# EAGLE library part ESPARDINO_XP_SINGLEPART (library espardino_xpress)
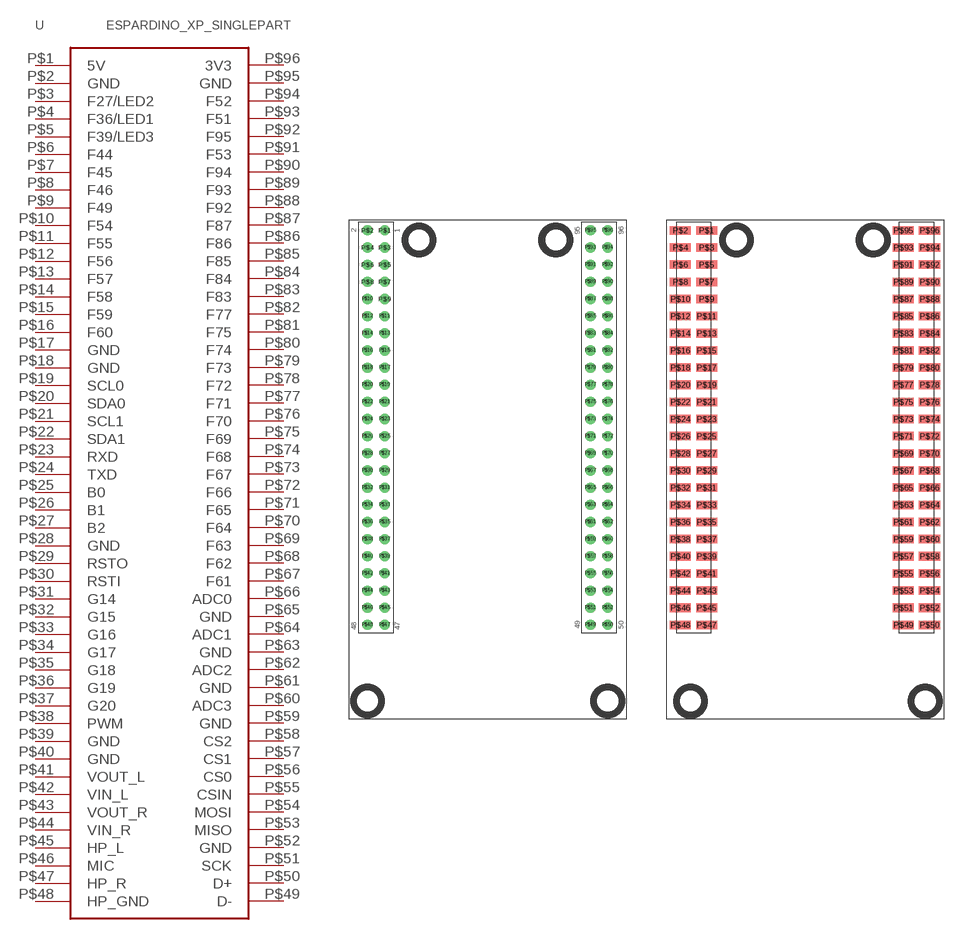
[diagram p0: symbol with the pads of ESPARDINO_XP_HOLES; footprints ESPARDINO_XP_HOLES, ESPARDINO_XP_SMD]

Designator prefix -

## ESPARDINO_XP_SINGLEPART_HOLES  [ESPARDINO_XP_HOLES]
P$1  5V  pwr
P$2  GND  pwr
P$3  F27/LED2
P$4  F36/LED1
P$5  F39/LED3
P$6  F44
P$7  F45
P$8  F46
P$9  F49
P$10  F54
P$11  F55
P$12  F56
P$13  F57
P$14  F58
P$15  F59
P$16  F60
P$17  GND  pwr
P$18  GND  pwr
P$19  SCL0
P$20  SDA0
P$21  SCL1
P$22  SDA1
P$23  RXD
P$24  TXD
P$25  B0
P$26  B1
P$27  B2
P$28  GND  pwr
P$29  RSTO
P$30  RSTI
P$31  G14
P$32  G15
P$33  G16
P$34  G17
P$35  G18
P$36  G19
P$37  G20
P$38  PWM
P$39  GND  pwr
P$40  GND  pwr
P$41  VOUT_L
P$42  VIN_L
P$43  VOUT_R
P$44  VIN_R
P$45  HP_L
P$46  MIC
P$47  HP_R
P$48  HP_GND
P$49  D-
P$50  D+
P$51  SCK
P$52  GND  pwr
P$53  MISO
P$54  MOSI
P$55  CSIN
P$56  CS0
P$57  CS1
P$58  CS2
P$59  GND  pwr
P$60  ADC3
P$61  GND  pwr
P$62  ADC2
P$63  GND  pwr
P$64  ADC1
P$65  GND  pwr
P$66  ADC0
P$67  F61
P$68  F62
P$69  F63
P$70  F64
P$71  F65
P$72  F66
P$73  F67
P$74  F68
P$75  F69
P$76  F70
P$77  F71
P$78  F72
P$79  F73
P$80  F74
P$81  F75
P$82  F77
P$83  F83
P$84  F84
P$85  F85
P$86  F86
P$87  F87
P$88  F92
P$89  F93
P$90  F94
P$91  F53
P$92  F95
P$93  F51
P$94  F52
P$95  GND  pwr
P$96  3V3  pwr

## ESPARDINO_XP_SINGLEPART_SMD  [ESPARDINO_XP_SMD]
Pads as for ESPARDINO_XP_HOLES

## Footprint ESPARDINO_XP_HOLES (pad centres in mm)
drill 0.9 pad 1.5 round: P$1 0,0; P$2 -2.54,0; P$3 0,-2.54; P$4 -2.54,-2.54; P$5 0,-5.08; P$6 -2.54,-5.08; P$7 0,-7.62; P$8 -2.54,-7.62; P$9 0,-10.16; P$10 -2.54,-10.16; P$11 0,-12.7; P$12 -2.54,-12.7; P$13 0,-15.24; P$14 -2.54,-15.24; P$15 0,-17.78; P$16 -2.54,-17.78; P$17 0,-20.32; P$18 -2.54,-20.32; P$19 0,-22.86; P$20 -2.54,-22.86; P$21 0,-25.4; P$22 -2.54,-25.4; P$23 0,-27.94; P$24 -2.54,-27.94; P$25 0,-30.48; P$26 -2.54,-30.48; P$27 0,-33.02; P$28 -2.54,-33.02; P$29 0,-35.56; P$30 -2.54,-35.56; P$31 0,-38.1; P$32 -2.54,-38.1; P$33 0,-40.64; P$34 -2.54,-40.64; P$35 0,-43.18; P$36 -2.54,-43.18; P$37 0,-45.72; P$38 -2.54,-45.72; P$39 0,-48.26; P$40 -2.54,-48.26; P$41 0,-50.8; P$42 -2.54,-50.8; P$43 0,-53.34; P$44 -2.54,-53.34; P$45 0,-55.88; P$46 -2.54,-55.88; P$47 0,-58.42; P$48 -2.54,-58.42; P$49 30.48,-58.42; P$50 33.02,-58.42; P$51 30.48,-55.88; P$52 33.02,-55.88; P$53 30.48,-53.34; P$54 33.02,-53.34; P$55 30.48,-50.8; P$56 33.02,-50.8; P$57 30.48,-48.26; P$58 33.02,-48.26; P$59 30.48,-45.72; P$60 33.02,-45.72; P$61 30.48,-43.18; P$62 33.02,-43.18; P$63 30.48,-40.64; P$64 33.02,-40.64; P$65 30.48,-38.1; P$66 33.02,-38.1; P$67 30.48,-35.56; P$68 33.02,-35.56; P$69 30.48,-33.02; P$70 33.02,-33.02; P$71 30.48,-30.48; P$72 33.02,-30.48; P$73 30.48,-27.94; P$74 33.02,-27.94; P$75 30.48,-25.4; P$76 33.02,-25.4; P$77 30.48,-22.86; P$78 33.02,-22.86; P$79 30.48,-20.32; P$80 33.02,-20.32; P$81 30.48,-17.78; P$82 33.02,-17.78; P$83 30.48,-15.24; P$84 33.02,-15.24; P$85 30.48,-12.7; P$86 33.02,-12.7; P$87 30.48,-10.16; P$88 33.02,-10.16; P$89 30.48,-7.62; P$90 33.02,-7.62; P$91 30.48,-5.08; P$92 33.02,-5.08; P$93 30.48,-2.54; P$94 33.02,-2.54; P$95 30.48,0; P$96 33.02,0
hole 3.2 at 5.08,-1.42
hole 3.2 at 25.35,-1.42
hole 3.2 at -2.56,-69.71
hole 3.2 at 33.04,-69.71

## Footprint ESPARDINO_XP_SMD (pad centres in mm)
smd 3.12 x 1.27: P$1 0,0; P$2 -3.88,0; P$3 0,-2.54; P$4 -3.88,-2.54; P$5 0,-5.08; P$6 -3.88,-5.08; P$7 0,-7.62; P$8 -3.88,-7.62; P$9 0,-10.16; P$10 -3.88,-10.16; P$11 0,-12.7; P$12 -3.88,-12.7; P$13 0,-15.24; P$14 -3.88,-15.24; P$15 0,-17.78; P$16 -3.88,-17.78; P$17 0,-20.32; P$18 -3.88,-20.32; P$19 0,-22.86; P$20 -3.88,-22.86; P$21 0,-25.4; P$22 -3.88,-25.4; P$23 0,-27.94; P$24 -3.88,-27.94; P$25 0,-30.48; P$26 -3.88,-30.48; P$27 0,-33.02; P$28 -3.88,-33.02; P$29 0,-35.56; P$30 -3.88,-35.56; P$31 0,-38.1; P$32 -3.88,-38.1; P$33 0,-40.64; P$34 -3.88,-40.64; P$35 0,-43.18; P$36 -3.88,-43.18; P$37 0,-45.72; P$38 -3.88,-45.72; P$39 0,-48.26; P$40 -3.88,-48.26; P$41 0,-50.8; P$42 -3.88,-50.8; P$43 0,-53.34; P$44 -3.88,-53.34; P$45 0,-55.88; P$46 -3.88,-55.88; P$47 0,-58.42; P$48 -3.88,-58.42; P$49 29.14,-58.42; P$50 33.02,-58.42; P$51 29.14,-55.88; P$52 33.02,-55.88; P$53 29.14,-53.34; P$54 33.02,-53.34; P$55 29.14,-50.8; P$56 33.02,-50.8; P$57 29.14,-48.26; P$58 33.02,-48.26; P$59 29.14,-45.72; P$60 33.02,-45.72; P$61 29.14,-43.18; P$62 33.02,-43.18; P$63 29.14,-40.64; P$64 33.02,-40.64; P$65 29.14,-38.1; P$66 33.02,-38.1; P$67 29.14,-35.56; P$68 33.02,-35.56; P$69 29.14,-33.02; P$70 33.02,-33.02; P$71 29.14,-30.48; P$72 33.02,-30.48; P$73 29.14,-27.94; P$74 33.02,-27.94; P$75 29.14,-25.4; P$76 33.02,-25.4; P$77 29.14,-22.86; P$78 33.02,-22.86; P$79 29.14,-20.32; P$80 33.02,-20.32; P$81 29.14,-17.78; P$82 33.02,-17.78; P$83 29.14,-15.24; P$84 33.02,-15.24; P$85 29.14,-12.7; P$86 33.02,-12.7; P$87 29.14,-10.16; P$88 33.02,-10.16; P$89 29.14,-7.62; P$90 33.02,-7.62; P$91 29.14,-5.08; P$92 33.02,-5.08; P$93 29.14,-2.54; P$94 33.02,-2.54; P$95 29.14,0; P$96 33.02,0
hole 3.2 at 4.43,-1.42
hole 3.2 at 24.7,-1.42
hole 3.2 at -2.38,-69.71
hole 3.2 at 32.39,-69.71